# EAGLE library part WF-10 (library gost_con_wf)
Разъем WF шаг 2.54mm
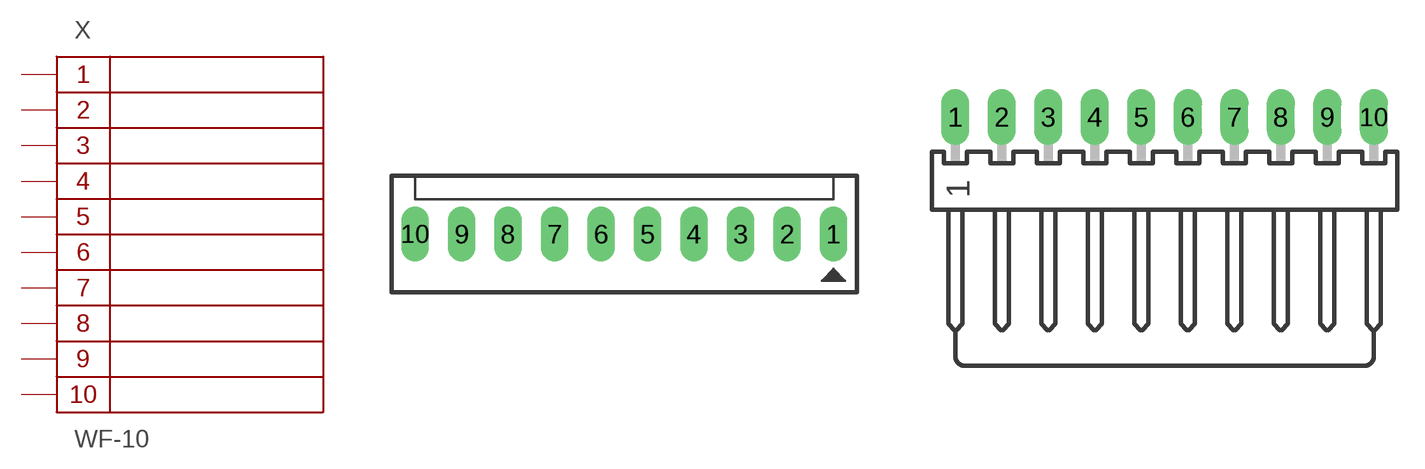
[diagram p9: symbol with the pads of WF-10; footprints WF-10, WF-10R]

Designator prefix X

## WF-10  [WF-10]
1  1
2  2
3  3
4  4
5  5
6  6
7  7
8  8
9  9
10  10

## WF-10R  [WF-10R]
Pads as for WF-10

## Footprint WF-10 (pad centres in mm)
Разъем WF-10 2.54mm
drill 1 pad 1.5 long: 1 11.43,0; 2 8.89,0; 3 6.35,0; 4 3.81,0; 5 1.27,0; 6 -1.27,0; 7 -3.81,0; 8 -6.35,0; 9 -8.89,0; 10 -11.43,0

## Footprint WF-10R (pad centres in mm)
Разъем WF-10R 2.54mm
drill 1.016 pad 1.5 long: 1 -11.43,0; 2 -8.89,0; 3 -6.35,0; 4 -3.81,0; 5 -1.27,0; 6 1.27,0; 7 3.81,0; 8 6.35,0; 9 8.89,0; 10 11.43,0